# EAGLE library part TPS54332 (library Deegou_IC)
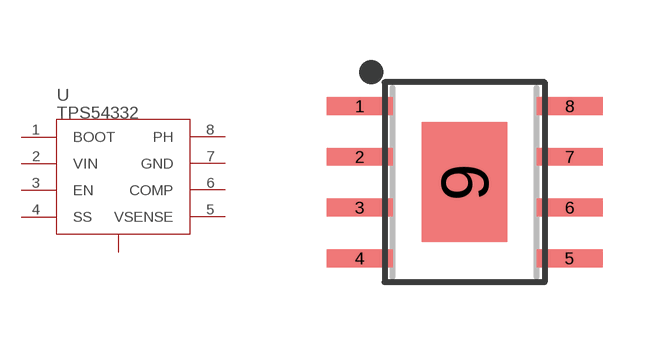
[diagram p165: symbol with the pads of SO-8-P; footprint SO-8-P]

Designator prefix U

## TPS54332  [SO-8-P]
1  BOOT
2  VIN
3  EN
4  SS
5  VSENSE
6  COMP
7  GND
8  PH
9  P$1

## Footprint SO-8-P (pad centres in mm)
smd 1.65 x 0.45: 1 -2.625,1.905; 2 -2.625,0.635; 3 -2.625,-0.635; 4 -2.625,-1.905; 5 2.625,-1.905; 6 2.625,-0.635; 7 2.625,0.635; 8 2.625,1.905
smd 2.13 x 3: 9 0,0